# EAGLE library part ADF4157 (library analogdevices-freqsynth)
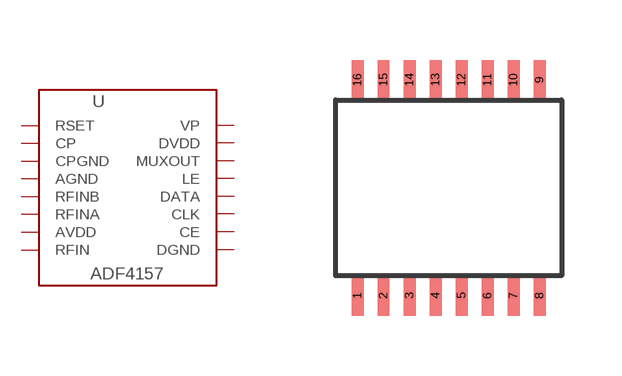
[diagram p0: symbol with the pads of TSSOP16; footprint TSSOP16]

Designator prefix -

## ADF4157  [TSSOP16]
1  RSET
2  CP
3  CPGND
4  AGND
5  RFINB
6  RFINA
7  AVDD
8  RFIN
9  DGND
10  CE
11  CLK
12  DATA
13  LE
14  MUXOUT
15  DVDD
16  VP

## Footprint TSSOP16 (pad centres in mm)
smd 0.3 x 1: 1 -1.95,-2.7; 2 -1.3,-2.7; 3 -0.65,-2.7; 4 0,-2.7; 5 0.65,-2.7; 6 1.3,-2.7; 7 1.95,-2.7; 8 2.6,-2.7; 9 2.6,2.7; 10 1.95,2.7; 11 1.3,2.7; 12 0.65,2.7; 13 0,2.7; 14 -0.65,2.7; 15 -1.3,2.7; 16 -1.95,2.7